# Altium footprint library TE_2-644486-6.PcbLib: 1 footprints
Each footprint in its own frame and in the unit in brackets; x right, y up, seen from the top. Pads: shape width x height; smd on the part's side, far side on the other; paste and mask are expansions set on the pad; w line width, h text height; cw(c..) or ccw(c..) is an arc to the next point about the centre after c.
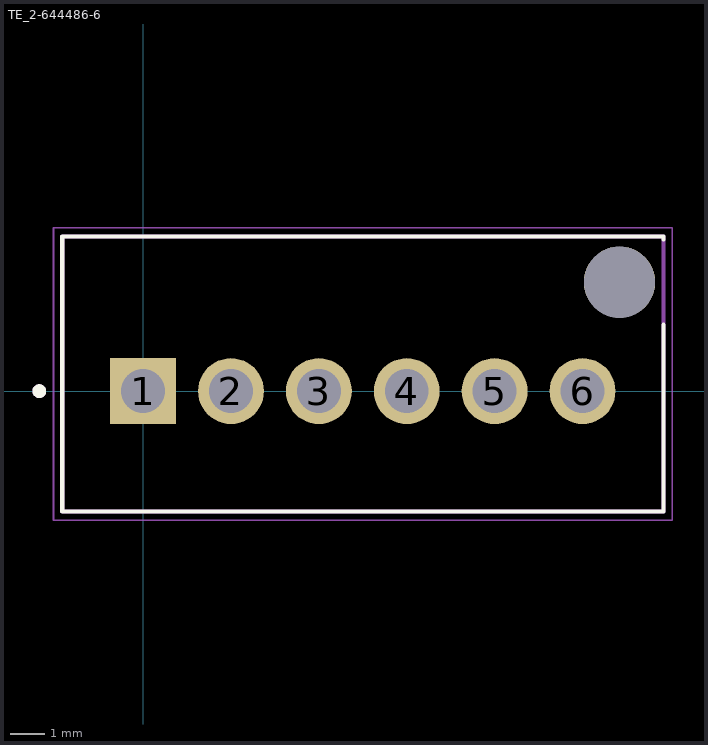
[diagram p0: the footprint, top view; thin cyan lines are the x and y axes]

## TE_2-644486-6 [mm]
pads (7):
  rect 1.905x1.905 hole 1.27: 1(0,0)
  round 1.905 hole 1.27: 2(2.54,0) 3(5.08,0) 4(7.62,0) 5(10.16,0) 6(12.7,0)
  round 2.06 hole 2.06 unplated: ""(13.77,3.15)
Top Overlay:
  circle w0.2: c-3,0 r0.1
  lines w0.127: 15.04,1.919 15.04,-3.48 -2.34,-3.48 -2.34,4.47 15.04,4.47 15.04,4.381
Mechanical 13:
  circle w0.2: c-3,0 r0.1
  lines w0.127: -2.34,-3.48 -2.34,4.47 15.04,4.47 15.04,-3.48 -2.34,-3.48
Mechanical 15:
  lines w0.05: -2.59,-3.73 15.29,-3.73 15.29,4.72 -2.59,4.72 -2.59,-3.73
3D body "2-644486-6.stp": height 10.49, standoff -3.48, extent -2.337,-3.467 15.037,4.483